# Altium footprint library MiscLib.PcbLib: 6 footprints
Each footprint in its own frame and in the unit in brackets; x right, y up, seen from the top. Pads: shape width x height; smd on the part's side, far side on the other; paste and mask are expansions set on the pad; w line width, h text height; cw(c..) or ccw(c..) is an arc to the next point about the centre after c.
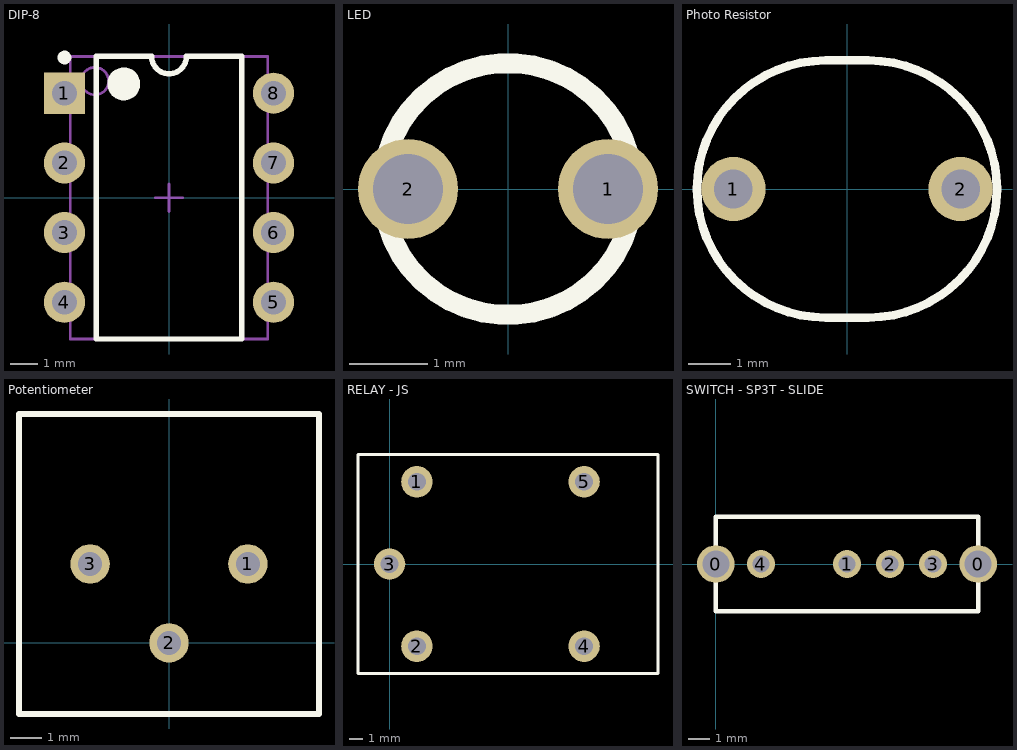
[diagram p0: the footprints below, top view; thin cyan lines are the x and y axes]

## DIP-8 [mm] "DIP, 8-Pin, Row Spacing 7.62 mm, Pitch 2.54 mm"
height 5.33
pads (8):
  rect 1.5x1.5 hole 0.9: 1(-3.81,3.81)
  round 1.5 hole 0.9: 2(-3.81,1.27) 3(-3.81,-1.27) 4(-3.81,-3.81) 5(3.81,-3.81) 6(3.81,-1.27) 7(3.81,1.27) 8(3.81,3.81)
Top Overlay:
  circle w0.6: c-1.65,4.15 r0.3
  circle w0.25: c-3.81,5.11 r0.125
  lines w0.2: -2.65,-5.15 2.65,-5.15 2.65,5.15 0.635,5.15 cw(c0,5.15) -0.635,5.15 -2.65,5.15 -2.65,-5.15
Mechanical 13:
  circle w0.1: c-2.7,4.25 r0.5
  lines w0.1: -3.6,-5.15 3.6,-5.15 3.6,5.15 -3.6,5.15 -3.6,-5.15
Mechanical 15:
  lines w0.1: -0.5,0 0.5,0 ; 0,-0.5 0,0.5
3D body: height 5.33, standoff 0, extent -3.6,-5.15 3.6,5.15

## LED [mil] "Round with Domed Top, 3mm, T-1 Example: 754-1599-ND"
pads (2):
  round 50 hole 35: 1(50,0) 2(-50,0)
Top Overlay:
  circle w10: c0,0 r62.99

## Photo Resistor [mm]
pads (2):
  round 1.5 hole 0.9: 1(-2.65,0) 2(2.65,0)
Top Overlay:
  lines w0.2: -0.5,-3 cw(c-0.5,0) -0.5,3 0.5,3 cw(c0.5,0) 0.5,-3 -0.5,-3

## Potentiometer [mil] "3386P-203LF-ND - Square - 0.375\" L x 0.375\" W x 0.190\" H - 3386 Series"
height 190.16
pads (3):
  round 50 hole 30: 1(100,100) 2(0,0) 3(-100,100)
Top Overlay:
  lines w7.87: -190,-90 -190,290 190,290 190,-90 -190,-90

## RELAY - JS [mm] "Panasonic Relay"
height 0.406
pads (5):
  round 2.3 hole 1.3: 1(2,6) 2(2,-6) 3(0,0) 4(14.2,-6) 5(14.2,6)
Top Overlay:
  lines w0.2: -2.3,-8 19.6,-8 19.6,8 -2.3,8 -2.3,-8
3D body: height 16, standoff 0, extent -2.3,-8 19.6,8

## SWITCH - SP3T - SLIDE [mm] "SWITCH SLIDE SP3T 0.3A 30V - C&K Components - SS-13D16-VG 4 PA"
height 0.119
pads (6):
  round 1.75 hole 1.25: 0(0,0) 0(12.2,0)
  round 1.3 hole 0.8: 1(6.1,0) 2(8.1,0) 3(10.1,0) 4(2.1,0)
Top Overlay:
  lines w0.2: 0,-2.2 12.2,-2.2 12.2,2.2 0,2.2 0,-2.2
3D body: height 4.7, standoff 0, extent 0,-2.2 12.2,2.2